# EAGLE library part LM555CM (library Common-Parts-Library-Eagle)
LM555 Series 16 V Monolithic Timing Circuit General Purpose Single Timer - SOP-8
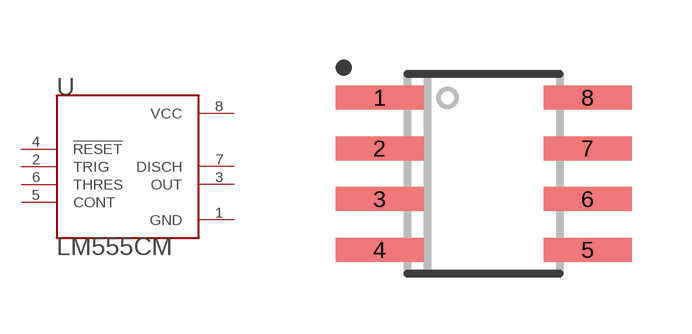
[diagram p77: symbol with the pads of LM555CM_SOIC127P600X175-8N; footprint LM555CM_SOIC127P600X175-8N]

Designator prefix U

## LM555CM (MANUFACTURER: Fairchild Semiconductor)  [LM555CM_SOIC127P600X175-8N]
1  GND  pas
2  TRIG  in
3  OUT  out
4  !RESET  in
5  CONT  in
6  THRES  in
7  DISCH  out
8  VCC  pwr

## Footprint LM555CM_SOIC127P600X175-8N (pad centres in mm)
smd 2.2 x 0.6: 1 -2.6,1.905; 2 -2.6,0.635; 3 -2.6,-0.635; 4 -2.6,-1.905; 5 2.6,-1.905; 6 2.6,-0.635; 7 2.6,0.635; 8 2.6,1.905